# EAGLE library part QT48A03 (library QT48A03)
1000Base-T DUAL Port Transformer Module Source: Datasheet <https://datasheet.lcsc.com/szlcsc/1810082007_TNK-QT48A03_C216365.pdf>
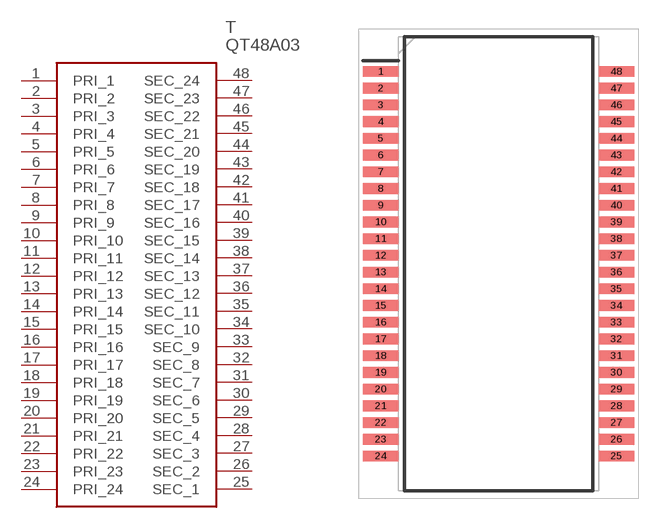
[diagram p0: symbol with the pads of SOP102P1536X780-48N; footprint SOP102P1536X780-48N]

Designator prefix T

## QT48A03 (Description: 1000Base-T DUAL Port Transformer Module; Height: 7.8mm; Manufacturer_Name: TNK; Manufacturer_Part_Number: QT48A03)  [SOP102P1536X780-48N]
1  PRI_1
2  PRI_2
3  PRI_3
4  PRI_4
5  PRI_5
6  PRI_6
7  PRI_7
8  PRI_8
9  PRI_9
10  PRI_10
11  PRI_11
12  PRI_12
13  PRI_13
14  PRI_14
15  PRI_15
16  PRI_16
17  PRI_17
18  PRI_18
19  PRI_19
20  PRI_20
21  PRI_21
22  PRI_22
23  PRI_23
24  PRI_24
25  SEC_1
26  SEC_2
27  SEC_3
28  SEC_4
29  SEC_5
30  SEC_6
31  SEC_7
32  SEC_8
33  SEC_9
34  SEC_10
35  SEC_11
36  SEC_12
37  SEC_13
38  SEC_14
39  SEC_15
40  SEC_16
41  SEC_17
42  SEC_18
43  SEC_19
44  SEC_20
45  SEC_21
46  SEC_22
47  SEC_23
48  SEC_24

## Footprint SOP102P1536X780-48N (pad centres in mm)
QT48A03
smd 2.175 x 0.65: 1 -7.188,11.73; 2 -7.188,10.71; 3 -7.188,9.69; 4 -7.188,8.67; 5 -7.188,7.65; 6 -7.188,6.63; 7 -7.188,5.61; 8 -7.188,4.59; 9 -7.188,3.57; 10 -7.188,2.55; 11 -7.188,1.53; 12 -7.188,0.51; 13 -7.188,-0.51; 14 -7.188,-1.53; 15 -7.188,-2.55; 16 -7.188,-3.57; 17 -7.188,-4.59; 18 -7.188,-5.61; 19 -7.188,-6.63; 20 -7.188,-7.65; 21 -7.188,-8.67; 22 -7.188,-9.69; 23 -7.188,-10.71; 24 -7.188,-11.73; 25 7.188,-11.73; 26 7.188,-10.71; 27 7.188,-9.69; 28 7.188,-8.67; 29 7.188,-7.65; 30 7.188,-6.63; 31 7.188,-5.61; 32 7.188,-4.59; 33 7.188,-3.57; 34 7.188,-2.55; 35 7.188,-1.53; 36 7.188,-0.51; 37 7.188,0.51; 38 7.188,1.53; 39 7.188,2.55; 40 7.188,3.57; 41 7.188,4.59; 42 7.188,5.61; 43 7.188,6.63; 44 7.188,7.65; 45 7.188,8.67; 46 7.188,9.69; 47 7.188,10.71; 48 7.188,11.73